# EAGLE library part CS8416_HW (library cirrus)
DIGITAL AUDIO INTERFACE RECEIVER (Software Mode) 192 kHz, AES3, S/PDIF-compatible Receiver
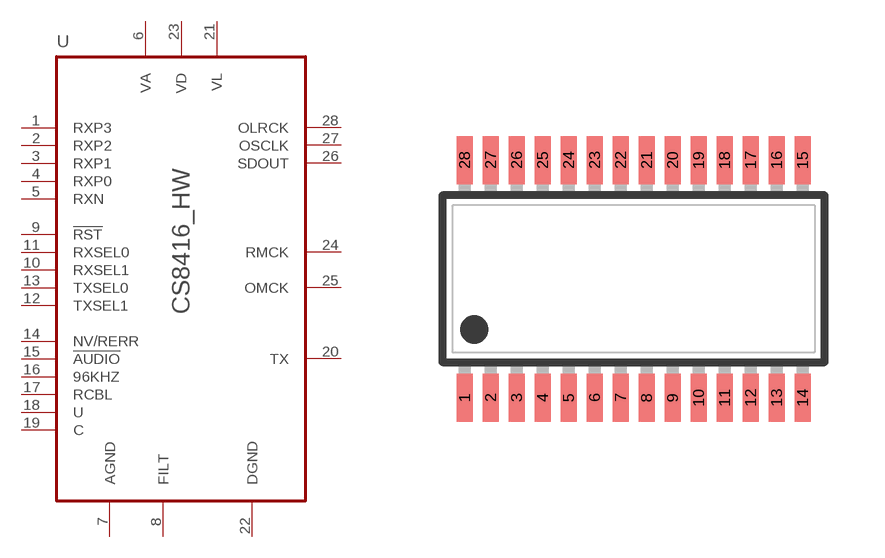
[diagram p11: symbol with the pads of TSSOP28L; footprint TSSOP28L]

Designator prefix U

## CS8416_HW  [TSSOP28L]
1  RXP3  in
2  RXP2  in
3  RXP1  in
4  RXP0  in
5  RXN  in
6  VA  pwr
7  AGND  pwr
8  FILT  out
9  !RST!  in
10  RXSEL1  in
11  RXSEL0  in
12  TXSEL1  in
13  TXSEL0  in
14  NV/RERR  out
15  !AUDIO!  out
16  96KHZ  out
17  RCBL  out
18  U  out
19  C  out
20  TX  out
21  VL  pwr
22  DGND  pwr
23  VD  pwr
24  RMCK  out
25  OMCK  in
26  SDOUT  out
27  OSCLK
28  OLRCK

## Footprint TSSOP28L (pad centres in mm)
Small Shrink Outline Package JEDEC MO-153
smd 0.4 x 1.2: 1 -3.575,-2.97; 2 -2.925,-2.97; 3 -2.275,-2.97; 4 -1.625,-2.97; 5 -0.975,-2.97; 6 -0.325,-2.97; 7 0.325,-2.97; 8 0.975,-2.97; 9 1.625,-2.97; 10 2.275,-2.97; 11 2.925,-2.97; 12 3.575,-2.97; 13 4.225,-2.97; 14 4.875,-2.97; 15 4.875,2.97; 16 4.225,2.97; 17 3.575,2.97; 18 2.925,2.97; 19 2.275,2.97; 20 1.625,2.97; 21 0.975,2.97; 22 0.325,2.97; 23 -0.325,2.97; 24 -0.975,2.97; 25 -1.625,2.97; 26 -2.275,2.97; 27 -2.925,2.97; 28 -3.575,2.97